# EAGLE library part ASSMANN_RJ45_A20142S4NR (library Nwazet.Go)
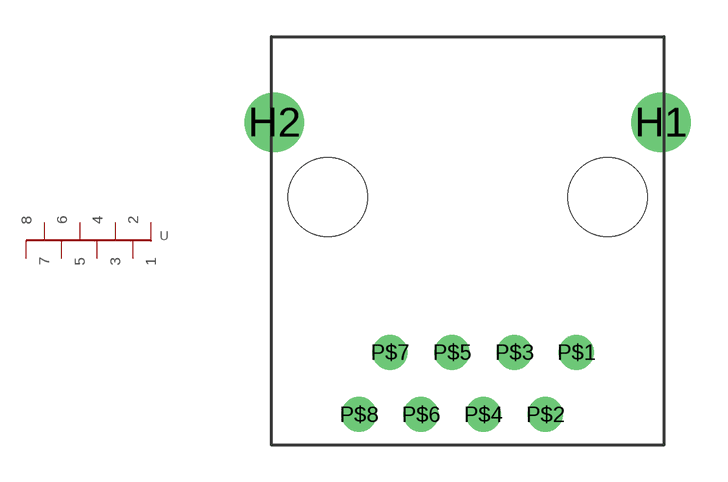
[diagram p22: symbol with the pads of ASSMANN_RJ45_A20142S4NR; footprint ASSMANN_RJ45_A20142S4NR]

Designator prefix -

## ASSMANN_RJ45_A20142S4NR  [ASSMANN_RJ45_A20142S4NR]
P$1  1
P$2  2
P$3  3
P$4  4
P$5  5
P$6  6
P$7  7
P$8  8

## Footprint ASSMANN_RJ45_A20142S4NR (pad centres in mm)
drill 1.625: H1 7.9,0; H2 -7.9,0
drill 0.925: P$1 4.445,-9.4; P$2 3.175,-11.94; P$3 1.905,-9.4; P$4 0.635,-11.94; P$5 -0.635,-9.4; P$6 -1.905,-11.94; P$7 -3.175,-9.4; P$8 -4.445,-11.94
hole 3.225 at 5.715,-3.05
hole 3.225 at -5.715,-3.05